# EAGLE library part A277 (library TABOR K1)
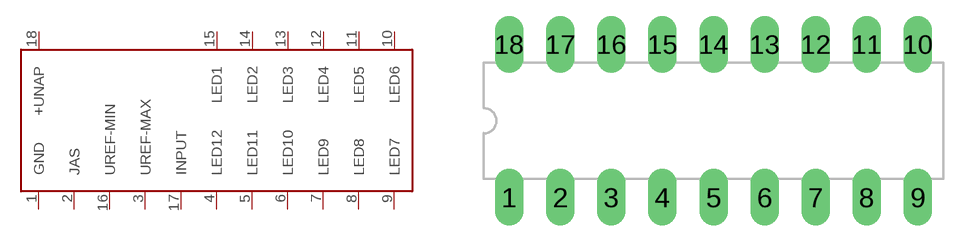
[diagram p12: symbol with the pads of DIL18; footprint DIL18]

Designator prefix -

## A277N  [DIL18]
1  GND  pwr
2  JAS  in
3  UREF-MAX  in
4  LED12
5  LED11
6  LED10
7  LED9
8  LED8
9  LED7
10  LED6
11  LED5
12  LED4
13  LED3
14  LED2
15  LED1
16  UREF-MIN  in
17  INPUT  in
18  +UNAP  pwr

## Footprint DIL18 (pad centres in mm)
Púzdro DIL18 : diera s pokovenim = 0,6 mm, vrtanie = 0,8mm
drill 0.813 pad 1.422 long: 1 -10.16,-3.81; 2 -7.62,-3.81; 3 -5.08,-3.81; 4 -2.54,-3.81; 5 0,-3.81; 6 2.54,-3.81; 7 5.08,-3.81; 8 7.62,-3.81; 9 10.16,-3.81; 10 10.16,3.81; 11 7.62,3.81; 12 5.08,3.81; 13 2.54,3.81; 14 0,3.81; 15 -2.54,3.81; 16 -5.08,3.81; 17 -7.62,3.81; 18 -10.16,3.81